# Altium footprint library SST20WDSA120L2571.PcbLib: 1 footprints
Each footprint in its own frame and in the unit in brackets; x right, y up, seen from the top. Pads: shape width x height; smd on the part's side, far side on the other; paste and mask are expansions set on the pad; w line width, h text height; cw(c..) or ccw(c..) is an arc to the next point about the centre after c.
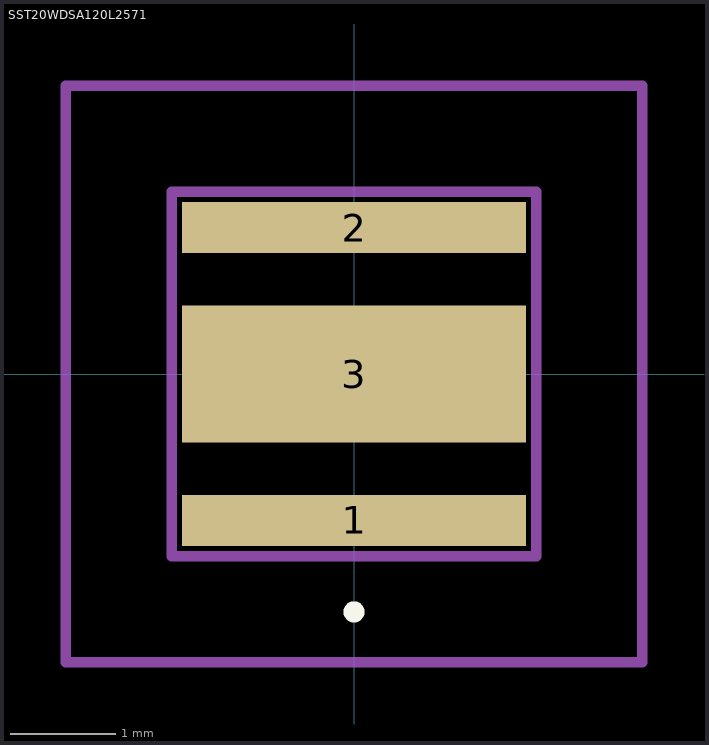
[diagram p0: the footprint, top view; thin cyan lines are the x and y axes]

## SST20WDSA120L2571 [mm]
pads (3):
  rect 3.25x0.48 smd: 1(0,-1.385) 2(0,1.385)
  rect 3.25x1.3 smd: 3(0,0)
Top Overlay:
  lines w0.1: 0,-2.3 0,-2.3 ; 0,-2.3 ccw(c0,-2.25) 0,-2.2 ; 0,-2.3 cw(c0,-2.25) 0,-2.2 ; 0,-2.2 0,-2.2
Mechanical 15:
  lines w0.1: -1.725,-1.725 1.725,-1.725 1.725,1.725 -1.725,1.725 -1.725,-1.725
Mechanical 20:
  lines w0.1: -2.725,-2.725 2.725,-2.725 2.725,2.725 -2.725,2.725 -2.725,-2.725